# EAGLE library part CD4021B_PW_16 (library cyberhedz)
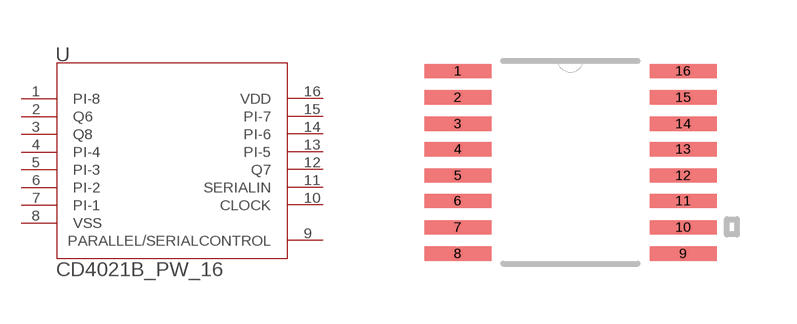
[diagram p8: symbol with the pads of PW16; footprint PW16]

Designator prefix U

## CD4021B_PW_16 (DATASHEETURL: http://www.ti.com/lit/gpn/CD4021B; DESCRIPTION: CMOS 8-Stage Static Shift Register; FAMILY_NAME: SHIFT REGISTER; GENERIC_PART_NUMBER: CD4021B; INDUSTRY_STD_PKG_TYPE: TSSOP; MANUFACTURER: Texas Instruments; PACKAGE_DESIGNATOR: PW; PIN_COUNT: 16)  [PW16]
1  PI-8  pas
2  Q6  pas
3  Q8  pas
4  PI-4  pas
5  PI-3  pas
6  PI-2  pas
7  PI-1  pas
8  VSS  pwr
9  PARALLEL/SERIALCONTROL  pas
10  CLOCK  pas
11  SERIALIN  in
12  Q7  pas
13  PI-5  pas
14  PI-6  pas
15  PI-7  pas
16  VDD  pwr

## Footprint PW16 (pad centres in mm)
smd 1.676 x 0.356: 1 -2.819,2.286; 2 -2.819,1.626; 3 -2.819,0.965; 4 -2.819,0.33; 5 -2.819,-0.33; 6 -2.819,-0.965; 7 -2.819,-1.626; 8 -2.819,-2.286; 9 2.819,-2.286; 10 2.819,-1.626; 11 2.819,-0.965; 12 2.819,-0.33; 13 2.819,0.33; 14 2.819,0.965; 15 2.819,1.626; 16 2.819,2.286